# Altium schematic symbol library WJEK254-2.54-03P-140-00A.SchLib: 1 symbol
Pins are listed as number, name and electrical type; pins without a type are passive.

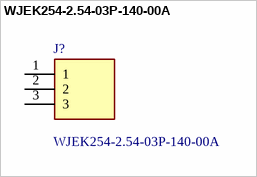
[diagram p0: symbol WJEK254-2.54-03P-140-00A]

## WJEK254-2.54-03P-140-00A
designator J?
Terminal block 2.54mm 3P green vertical; Manufacturer_Name: Cixi Wanjie Electronic Co., Ltd; Geometry.Height: 8.64mm; Manufacturer_Part_Number: WJEK254-2.54-03P-140-00A; Mouser Part Number: *; Mouser Price/Stock: *; Arrow Part Number: *; Arrow Price/Stock: *; Datasheet Link: https://akizukidenshi.com/download/ds/cixiwanjie/WJEK254-2.54-XXP-1YY-00A.pdf
footprint WJEK25425403P14000A
pins: 1, 2, 3